# EAGLE library part SHC_MS5611 (library Tracker)
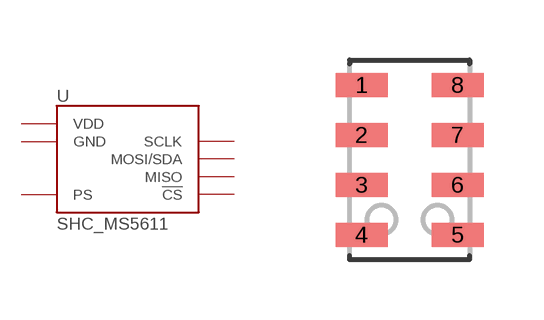
[diagram p1: symbol with the pads of SHC_MS5611-01BA01; footprint SHC_MS5611-01BA01]

Designator prefix -

## SHC_MS5611QFN  [SHC_MS5611-01BA01]
1  VDD
2  PS
3  GND
4  !CS!
5  !CS!
6  MISO
7  MOSI/SDA
8  SCLK

## Footprint SHC_MS5611-01BA01 (pad centres in mm)
smd 1.3 x 0.6: 1 -1.2,1.875; 2 -1.2,0.625; 3 -1.2,-0.625; 4 -1.2,-1.875; 5 1.2,-1.875; 6 1.2,-0.625; 7 1.2,0.625; 8 1.2,1.875